# Altium footprint library 503480-1000.PcbLib: 1 footprints
Each footprint in its own frame and in the unit in brackets; x right, y up, seen from the top. Pads: shape width x height; smd on the part's side, far side on the other; paste and mask are expansions set on the pad; w line width, h text height; cw(c..) or ccw(c..) is an arc to the next point about the centre after c.
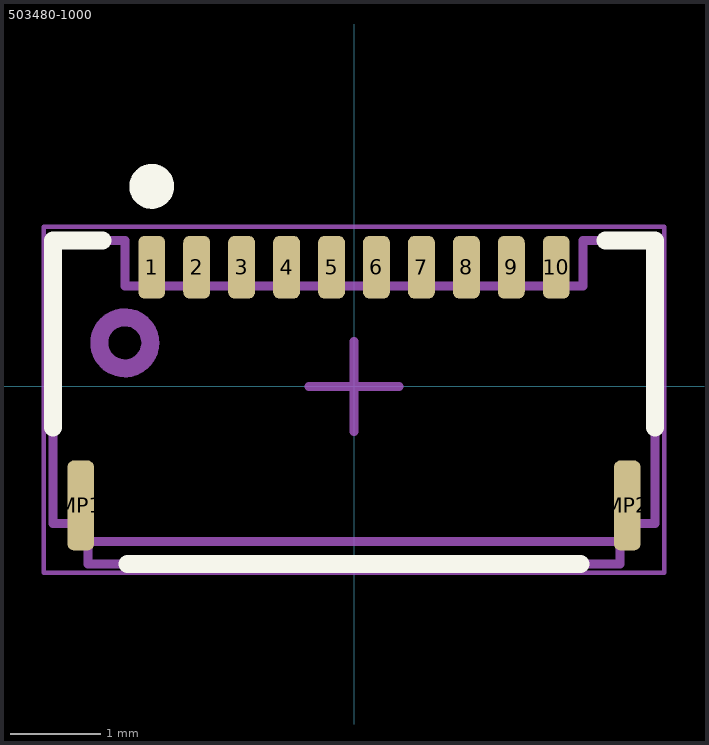
[diagram p0: the footprint, top view; thin cyan lines are the x and y axes]

## 503480-1000 [mm] "FPC Connector, 10-Leads, Right Angle, Pitch 0.5 mm, Mated Height 1.0 mm, SMT"
height 1.907
pads (12):
  rrect50% 0.3x0.7 smd: 1(-2.25,1.325) 2(-1.75,1.325) 3(-1.25,1.325) 4(-0.75,1.325) 5(-0.25,1.325) 6(0.25,1.325) 7(0.75,1.325) 8(1.25,1.325) 9(1.75,1.325) 10(2.25,1.325)
  rrect50% 0.3x1 smd: MP1(-3.04,-1.325) MP2(3.04,-1.325)
Top Overlay:
  circle w0.25: c-2.25,2.225 r0.125
  lines w0.2: -3.35,-0.458 -3.35,1.625 -2.8,1.625 ; -2.519,-1.975 2.519,-1.975 ; 2.8,1.625 3.35,1.625 ; 3.35,-0.458 3.35,1.625
Top Assembly:
  circle w0.2: c-2.55,0.484 r0.284
  lines w0.1: -3.35,1.625 -3.35,-1.525 -2.96,-1.525 -2.96,-1.975 2.96,-1.975 2.96,-1.525 3.35,-1.525 3.35,1.625 2.55,1.625 ; -3.35,1.625 -2.55,1.625 -2.55,1.115 2.55,1.115 2.55,1.624 ; -2.96,-1.725 2.96,-1.725
Top Courtyard:
  lines w0.05: -3.45,-2.075 3.45,-2.075 3.45,1.775 -3.45,1.775 -3.45,-2.075
  lines w0.1: -0.5,0 0.5,0 ; 0,-0.5 0,0.5
3D body "5034801000.stp": height 1.91, standoff 0.01, extent -3.35,-1.975 3.35,1.625